# EAGLE library part AD5686 (library STM_Library)
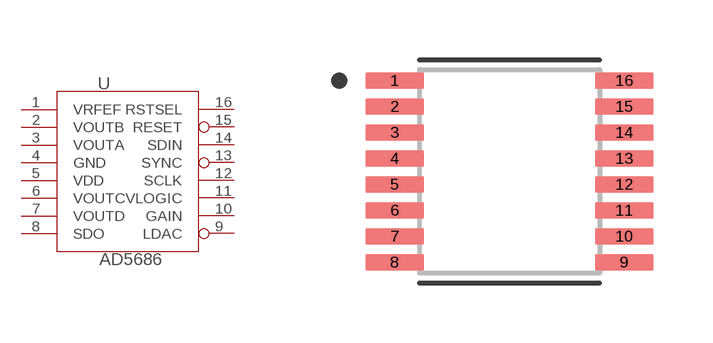
[diagram p2: symbol with the pads of SOP65P640X120-16N; footprint SOP65P640X120-16N]

Designator prefix U

## AD5686  [SOP65P640X120-16N]
1  VRFEF
2  VOUTB
3  VOUTA
4  GND
5  VDD
6  VOUTC
7  VOUTD
8  SDO
9  LDAC
10  GAIN
11  VLOGIC
12  SCLK
13  SYNC
14  SDIN
15  RESET
16  RSTSEL

## Footprint SOP65P640X120-16N (pad centres in mm)
DAC 8-CH Resistor-String 10-bit 16-Pin TSSOP Tube
smd 1.47 x 0.41: 1 -2.87,2.275; 2 -2.87,1.625; 3 -2.87,0.975; 4 -2.87,0.325; 5 -2.87,-0.325; 6 -2.87,-0.975; 7 -2.87,-1.625; 8 -2.87,-2.275; 9 2.87,-2.275; 10 2.87,-1.625; 11 2.87,-0.975; 12 2.87,-0.325; 13 2.87,0.325; 14 2.87,0.975; 15 2.87,1.625; 16 2.87,2.275